# Altium schematic symbol library vDevice.SCHLIB: 150 symbols
Pins are listed as number, name and electrical type; pins without a type are passive.

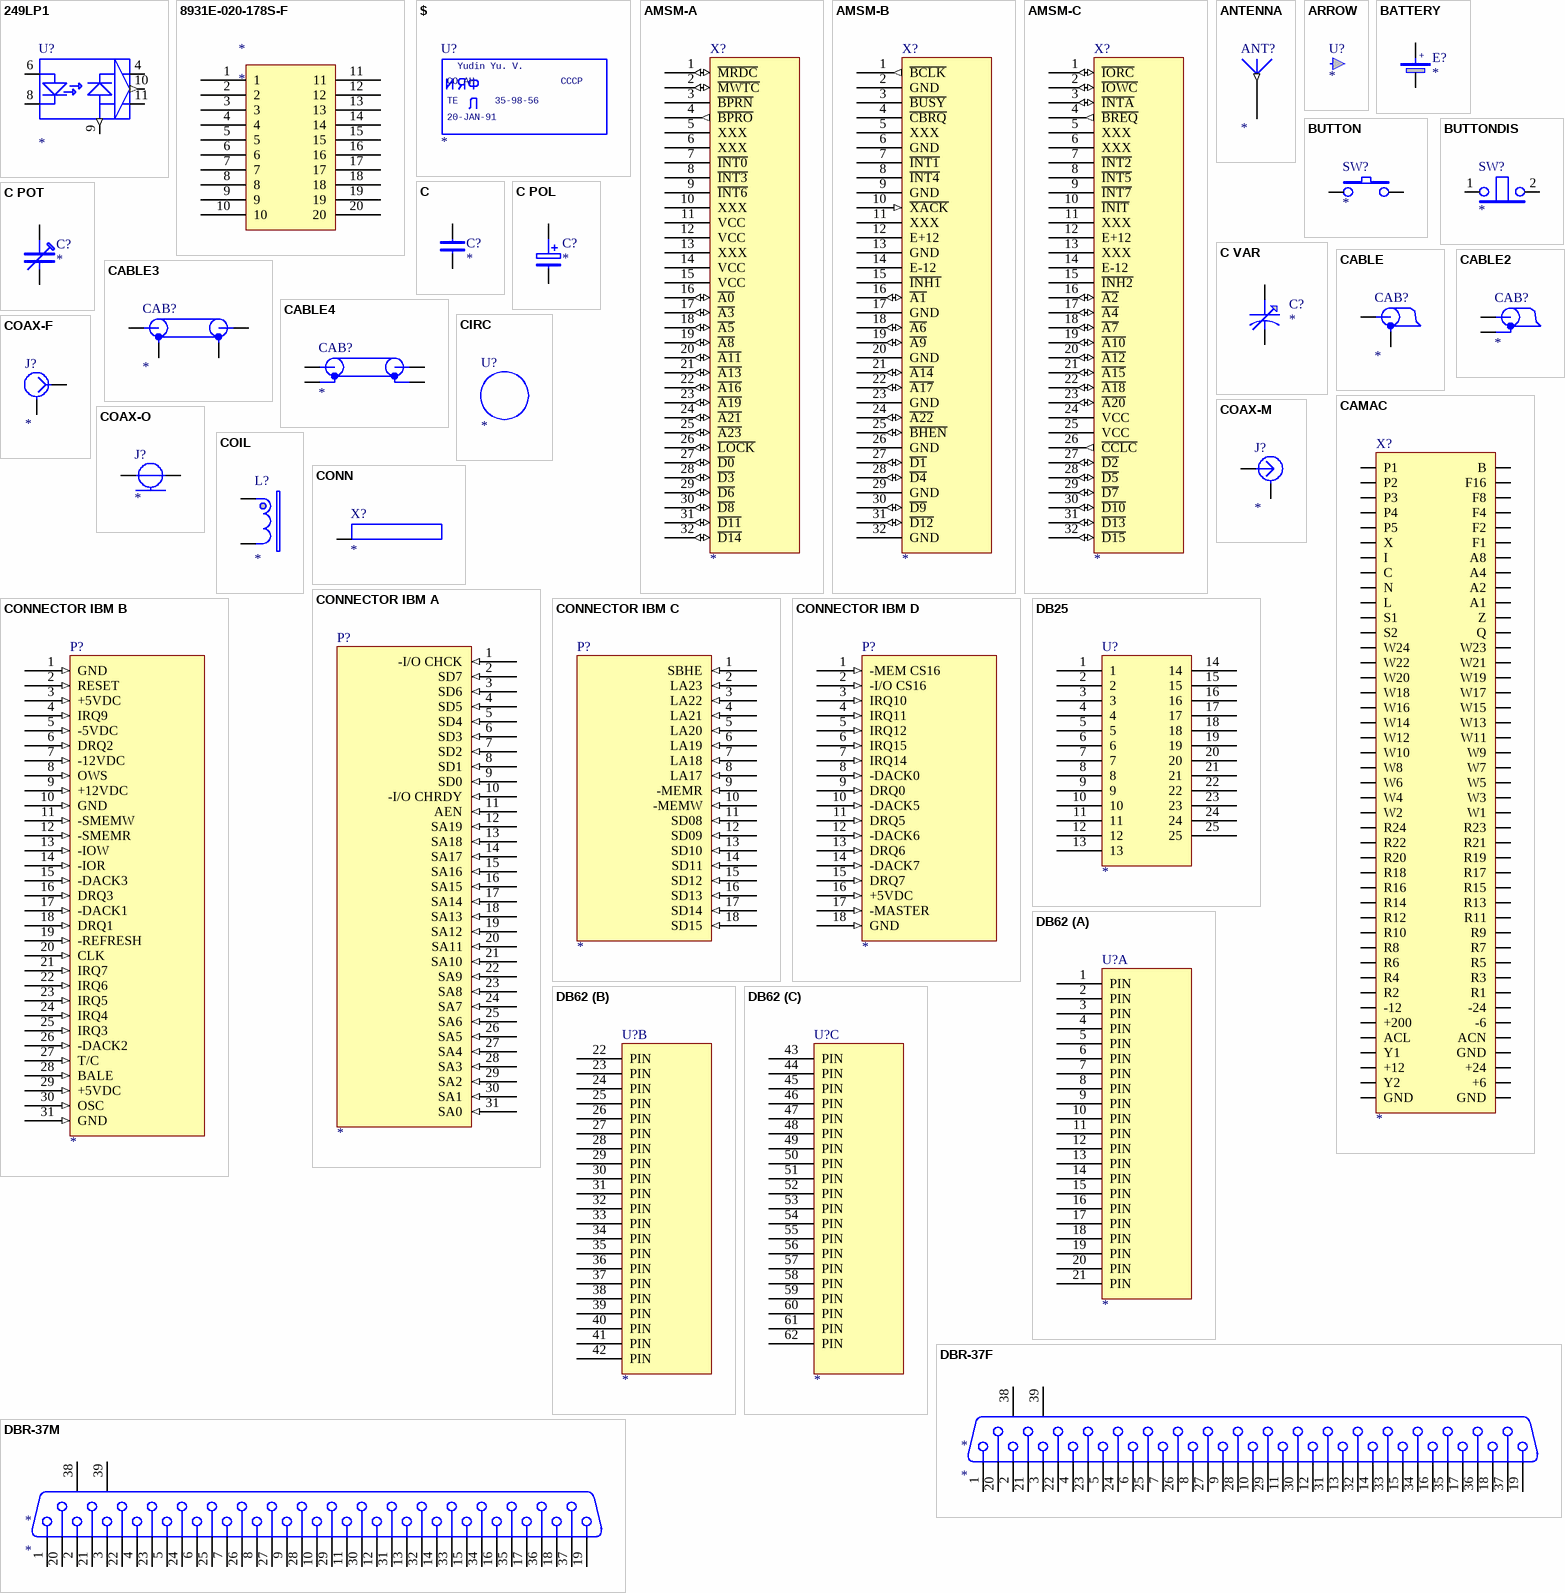
[diagram p0: symbols 249LP1 to DBR-37M]

## 249LP1
designator U?
Text Field1: 60; Text Field2: 40
pins: 4 POW, 6 ANOD, 8 CATH, 9 PHOTO (out), 10 OUT (out), 11 COMMON

## 8931E-020-178S-F
designator *
pins: 1, 2, 3, 4, 5, 6, 7, 8, 9, 10, 11, 12, 13, 14, 15, 16, 17, 18, 19, 20

## $
designator U?
Text Field1: 110; Text Field2: 50
text: Yudin Yu. V.; CO AH; CCCP; TE; 35-98-56; 20-JAN-91

## AMSM-A
designator X?
Text Field1: 60; Text Field2: 330
pins: 1 ~{MRDC} (io), 2 ~{MWTC} (io), 3 ~{BPRN}, 4 ~{BPRO} (out), 5 XXX, 6 XXX, 7 ~{INT0} (oc), 8 ~{INT3} (oc), 9 ~{INT6} (oc), 10 XXX, 11 VCC, 12 VCC, 13 XXX, 14 VCC, 15 VCC, 16 ~{A0} (io), 17 ~{A3} (io), 18 ~{A5} (io), 19 ~{A8} (io), 20 ~{A11} (io), 21 ~{A13} (io), 22 ~{A16} (io), 23 ~{A19} (io), 24 ~{A21} (io), 25 ~{A23} (io), 26 ~{LOCK} (io), 27 ~{D0} (io), 28 ~{D3} (io), 29 ~{D6} (io), 30 ~{D8} (io), 31 ~{D11} (io), 32 ~{D14} (io)

## AMSM-B
designator X?
Text Field1: 60; Text Field2: 330
pins: 1 ~{BCLK} (out), 2 GND, 3 ~{BUSY} (oc), 4 ~{CBRQ} (oc), 5 XXX, 6 GND, 7 ~{INT1} (oc), 8 ~{INT4} (oc), 9 GND, 10 ~{XACK} (in), 11 XXX, 12 E+12, 13 GND, 14 E-12, 15 ~{INH1} (oc), 16 ~{A1} (io), 17 GND, 18 ~{A6} (io), 19 ~{A9} (io), 20 GND, 21 ~{A14} (io), 22 ~{A17} (io), 23 GND, 24 ~{A22} (io), 25 ~{BHEN} (io), 26 GND, 27 ~{D1} (io), 28 ~{D4} (io), 29 GND, 30 ~{D9} (io), 31 ~{D12} (io), 32 GND

## AMSM-C
designator X?
Text Field1: 60; Text Field2: 330
pins: 1 ~{IORC} (io), 2 ~{IOWC} (io), 3 ~{INTA} (io), 4 ~{BREQ} (out), 5 XXX, 6 XXX, 7 ~{INT2} (oc), 8 ~{INT5} (oc), 9 ~{INT7} (oc), 10 ~{INIT} (oc), 11 XXX, 12 E+12, 13 XXX, 14 E-12, 15 ~{INH2} (oc), 16 ~{A2} (io), 17 ~{A4} (io), 18 ~{A7} (io), 19 ~{A10} (io), 20 ~{A12} (io), 21 ~{A15} (io), 22 ~{A18} (io), 23 ~{A20} (io), 24 VCC, 25 VCC, 26 ~{CCLC} (out), 27 ~{D2} (io), 28 ~{D5} (io), 29 ~{D7} (io), 30 ~{D10} (io), 31 ~{D13} (io), 32 ~{D15} (io)

## ANTENNA
designator ANT?
Text Field1: 20; Text Field2: 10
pins: 1 (out)

## ARROW
designator U?
Text Field1: 10; Text Field2: 20

## BATTERY
designator E?
Text Field1: 20; Text Field2: 10
pins: "+", "-"
text: +

## BUTTON
designator SW?
Text Field1: 30; Text Field2: 20
pins: 1, 2

## BUTTONDIS
designator SW?
Text Field1: 30; Text Field2: 20
pins: 1 CONN1 (io), 2 CONN2 (io)

## C
designator C?
Text Field1: 20; Text Field2: 10
footprint chip0805
footprint chip1206
footprint C2p5
footprint C5p0
footprint chip0603
pins: 1, 2

## C POL
designator C?
Text Field1: 20; Text Field2: 20
footprint CEL-SMD3330
footprint CEL-SMD300
footprint CEL15p0
footprint CEL2p5
pins: +, -

## C POT
designator C?
Text Field1: 20; Text Field2: 20
pins: 1, 2

## C VAR
designator C?
Text Field1: 20; Text Field2: 20
pins: 1, 2

## CABLE
designator CAB?
Text Field1: 30; Text Field2: 20
pins: SHIELD (io), WIRE (io)

## CABLE2
designator CAB?
Text Field1: 30; Text Field2: 20
pins: SHIELD (io), WIRE (io)

## CABLE3
designator CAB?
Text Field1: 60; Text Field2: 20
pins: SHIELD, SHIELD, WIRE, WIRE

## CABLE4
designator CAB?
Text Field1: 60; Text Field2: 20
pins: SHIELD, SHIELD, WIRE, WIRE

## CAMAC
designator X?
Text Field1: 80; Text Field2: 440
pins: +6, +12, +24, +200, -6, -12, -24, A1, A2, A4, A8, ACL, ACN, B, C, F1, F2, F4, F8, F16, GND, GND, GND, I, L, N, P1, P2, P3, P4, P5, Q, R1, R2, R3, R4, R5, R6, R7, R8, R9, R10, R11, R12, R13, R14, R15, R16, R17, R18, R19, R20, R21, R22, R23, R24, S1, S2, W1, W2, W3, W4, W5, W6, W7, W8, W9, W10, W11, W12, W13, W14, W15, W16, W17, W18, W19, W20, W21, W22, W23, W24, X, Y1, Y2, Z

## CIRC
designator U?
Text Field1: 40; Text Field2: 40

## COAX-F
designator J?
Text Field1: 20; Text Field2: 20
pins: SHIELD, WIRE

## COAX-M
designator J?
Text Field1: 20; Text Field2: 20
pins: SHIELD, WIRE

## COAX-O
designator J?
Text Field1: 20; Text Field2: 20
pins: WARE, WIRE

## COIL
designator L?
Text Field1: 20; Text Field2: 50
footprint COIL
pins: 1, 2

## CONN
designator X?
Text Field1: 60; Text Field2: 10
footprint PAD12
footprint PAD14
footprint PAD11
footprint PAD10
pins: PAD

## CONNECTOR IBM A
designator P?
Text Field1: 90; Text Field2: 320
pins: 1 -I/O CHCK (in), 2 SD7 (in), 3 SD6 (in), 4 SD5 (in), 5 SD4 (in), 6 SD3 (in), 7 SD2 (in), 8 SD1 (in), 9 SD0 (in), 10 -I/O CHRDY (in), 11 AEN (in), 12 SA19 (in), 13 SA18 (in), 14 SA17 (in), 15 SA16 (in), 16 SA15 (in), 17 SA14 (in), 18 SA13 (in), 19 SA12 (in), 20 SA11 (in), 21 SA10 (in), 22 SA9 (in), 23 SA8 (in), 24 SA7 (in), 25 SA6 (in), 26 SA5 (in), 27 SA4 (in), 28 SA3 (in), 29 SA2 (in), 30 SA1 (in), 31 SA0 (in)

## CONNECTOR IBM B
designator P?
Text Field1: 90; Text Field2: 320
pins: 1 GND (in), 2 RESET (in), 3 +5VDC (in), 4 IRQ9 (in), 5 -5VDC (in), 6 DRQ2 (in), 7 -12VDC (in), 8 OWS (in), 9 +12VDC (in), 10 GND (in), 11 -SMEMW (in), 12 -SMEMR (in), 13 -IOW (in), 14 -IOR (in), 15 -DACK3 (in), 16 DRQ3 (in), 17 -DACK1 (in), 18 DRQ1 (in), 19 -REFRESH (in), 20 CLK (in), 21 IRQ7 (in), 22 IRQ6 (in), 23 IRQ5 (in), 24 IRQ4 (in), 25 IRQ3 (in), 26 -DACK2 (in), 27 T/C (in), 28 BALE (in), 29 +5VDC (in), 30 OSC (in), 31 GND (in)

## CONNECTOR IBM C
designator P?
Text Field1: 90; Text Field2: 190
pins: 1 SBHE (in), 2 LA23 (in), 3 LA22 (in), 4 LA21 (in), 5 LA20 (in), 6 LA19 (in), 7 LA18 (in), 8 LA17 (in), 9 -MEMR (in), 10 -MEMW (in), 11 SD08 (in), 12 SD09 (in), 13 SD10 (in), 14 SD11 (in), 15 SD12 (in), 16 SD13 (in), 17 SD14 (in), 18 SD15 (in)

## CONNECTOR IBM D
designator P?
Text Field1: 90; Text Field2: 190
pins: 1 -MEM CS16 (in), 2 -I/O CS16 (in), 3 IRQ10 (in), 4 IRQ11 (in), 5 IRQ12 (in), 6 IRQ15 (in), 7 IRQ14 (in), 8 -DACK0 (in), 9 DRQ0 (in), 10 -DACK5 (in), 11 DRQ5 (in), 12 -DACK6 (in), 13 DRQ6 (in), 14 -DACK7 (in), 15 DRQ7 (in), 16 +5VDC (in), 17 -MASTER (in), 18 GND (in)

## DB25
designator U?
Text Field1: 60; Text Field2: 140
footprint DBR-F-25
footprint DBR-M-25
footprint DBS-F-25
footprint DBS-M-25
pins: 1, 2, 3, 4, 5, 6, 7, 8, 9, 10, 11, 12, 13, 14, 15, 16, 17, 18, 19, 20, 21, 22, 23, 24, 25

## DB62
designator U?
Text Field1: 60; Text Field2: 220
footprint DHBR-F-62
footprint DHBR-M-62
footprint DHBS-F-62
footprint DHBS-M-62
part A pins: 1 PIN, 2 PIN, 3 PIN, 4 PIN, 5 PIN, 6 PIN, 7 PIN, 8 PIN, 9 PIN, 10 PIN, 11 PIN, 12 PIN, 13 PIN, 14 PIN, 15 PIN, 16 PIN, 17 PIN, 18 PIN, 19 PIN, 20 PIN, 21 PIN
part B pins: 22 PIN, 23 PIN, 24 PIN, 25 PIN, 26 PIN, 27 PIN, 28 PIN, 29 PIN, 30 PIN, 31 PIN, 32 PIN, 33 PIN, 34 PIN, 35 PIN, 36 PIN, 37 PIN, 38 PIN, 39 PIN, 40 PIN, 41 PIN, 42 PIN
part C pins: 43 PIN, 44 PIN, 45 PIN, 46 PIN, 47 PIN, 48 PIN, 49 PIN, 50 PIN, 51 PIN, 52 PIN, 53 PIN, 54 PIN, 55 PIN, 56 PIN, 57 PIN, 58 PIN, 59 PIN, 60 PIN, 61 PIN, 62 PIN

## DBR-37F
designator *
footprint DBR-F-37
pins: 1, 2, 3, 4, 5, 6, 7, 8, 9, 10, 11, 12, 13, 14, 15, 16, 17, 18, 19, 20, 21, 22, 23, 24, 25, 26, 27, 28, 29, 30, 31, 32, 33, 34, 35, 36, 37, 38, 39

## DBR-37M
designator *
footprint DBR-37-M
pins: 1, 2, 3, 4, 5, 6, 7, 8, 9, 10, 11, 12, 13, 14, 15, 16, 17, 18, 19, 20, 21, 22, 23, 24, 25, 26, 27, 28, 29, 30, 31, 32, 33, 34, 35, 36, 37, 38, 39

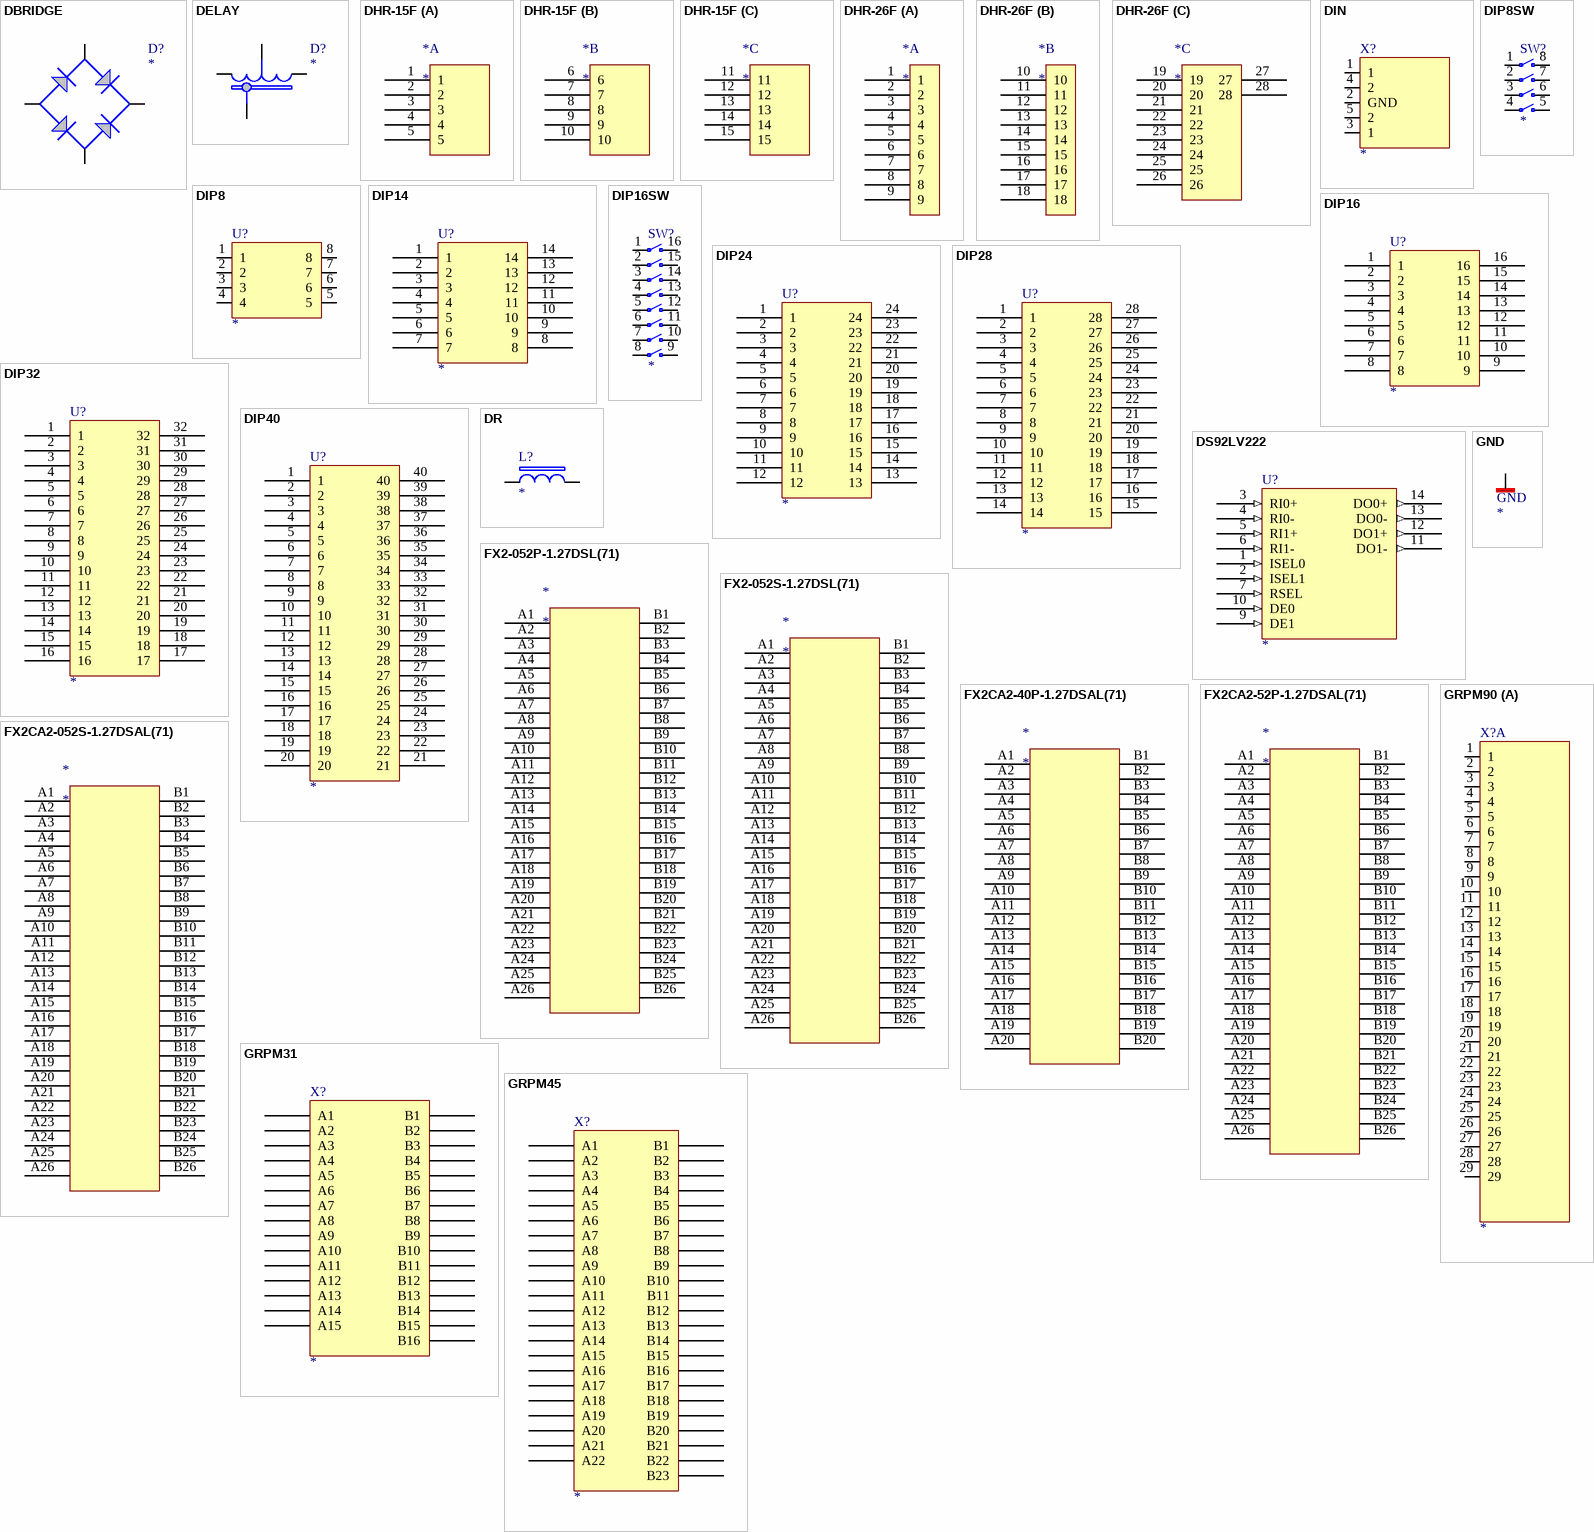
[diagram p1: symbols DBRIDGE to GRPM90]

## DBRIDGE
designator D?
Text Field1: 60; Text Field2: 60
pins: AC IN 1, AC IN 2, DC OUT MINUS, DC OUT PLUS

## DELAY
designator D?
Text Field1: 40; Text Field2: 30
pins: GND (io), OUT1 (io), OUT2 (io), OUT3 (io)

## DHR-15F
designator *
footprint DHR-F-15
part A pins: 1, 2, 3, 4, 5
part B pins: 6, 7, 8, 9, 10
part C pins: 11, 12, 13, 14, 15

## DHR-26F
designator *
footprint DHR-F-26
footprint DHR-26F
part A pins: 1, 2, 3, 4, 5, 6, 7, 8, 9
part B pins: 10, 11, 12, 13, 14, 15, 16, 17, 18
part C pins: 19, 20, 21, 22, 23, 24, 25, 26, 27, 28

## DIN
designator X?
Text Field1: 60; Text Field2: 60
footprint DIN
pins: 1, 2 GND, 3 1, 4 2, 5 2

## DIP8
designator U?
Text Field1: 60; Text Field2: 50
footprint 8DIP300
footprint 8SO200
pins: 1, 2, 3, 4, 5, 6, 7, 8

## DIP8SW
designator SW?
Text Field1: 10; Text Field2: 50
footprint 8DIP300
pins: 1, 2, 3, 4, 5, 6, 7, 8

## DIP14
designator U?
Text Field1: 60; Text Field2: 80
footprint 14DIP300
footprint 14SO200
pins: 1, 2, 3, 4, 5, 6, 7, 8, 9, 10, 11, 12, 13, 14

## DIP16
designator U?
Text Field1: 60; Text Field2: 90
footprint 16DIP300
footprint 16SO200
pins: 1, 2, 3, 4, 5, 6, 7, 8, 9, 10, 11, 12, 13, 14, 15, 16

## DIP16SW
designator SW?
Text Field1: 10; Text Field2: 90
pins: 1, 2, 3, 4, 5, 6, 7, 8, 9, 10, 11, 12, 13, 14, 15, 16

## DIP24
designator U?
Text Field1: 60; Text Field2: 130
pins: 1, 2, 3, 4, 5, 6, 7, 8, 9, 10, 11, 12, 13, 14, 15, 16, 17, 18, 19, 20, 21, 22, 23, 24

## DIP28
designator U?
Text Field1: 60; Text Field2: 150
pins: 1, 2, 3, 4, 5, 6, 7, 8, 9, 10, 11, 12, 13, 14, 15, 16, 17, 18, 19, 20, 21, 22, 23, 24, 25, 26, 27, 28

## DIP32
designator U?
Text Field1: 60; Text Field2: 170
pins: 1, 2, 3, 4, 5, 6, 7, 8, 9, 10, 11, 12, 13, 14, 15, 16, 17, 18, 19, 20, 21, 22, 23, 24, 25, 26, 27, 28, 29, 30, 31, 32

## DIP40
designator U?
Text Field1: 60; Text Field2: 210
pins: 1, 2, 3, 4, 5, 6, 7, 8, 9, 10, 11, 12, 13, 14, 15, 16, 17, 18, 19, 20, 21, 22, 23, 24, 25, 26, 27, 28, 29, 30, 31, 32, 33, 34, 35, 36, 37, 38, 39, 40

## DR
designator L?
Text Field1: 30; Text Field2: 10
footprint DR20p0
footprint DR30p0
pins: 1, 2

## DS92LV222
designator U?
Text Field1: 90; Text Field2: 100
pins: 1 ISEL0 (in), 2 ISEL1 (in), 3 RI0+ (in), 4 RI0- (in), 5 RI1+ (in), 6 RI1- (in), 7 RSEL (in), 8 GND (power) hidden to GND, 9 DE1 (in), 10 DE0 (in), 11 DO1- (out), 12 DO1+ (out), 13 DO0- (out), 14 DO0+ (out), 16 VCC (power) hidden to VCC

## FX2-052P-1.27DSL(71)
designator *
pins: A1 1, A2 2, A3 3, A4 4, A5 5, A6 6, A7 7, A8 8, A9 9, A10 10, A11 11, A12 12, A13 13, A14 14, A15 15, A16 16, A17 17, A18 18, A19 19, A20 20, A21, A22, A23, A24, A25, A26, B1 1, B2 2, B3 3, B4 4, B5 5, B6 6, B7 7, B8 8, B9 9, B10 10, B11 11, B12 12, B13 13, B14 14, B15 15, B16 16, B17 17, B18 18, B19 19, B20 20, B21, B22, B23, B24, B25, B26

## FX2-052S-1.27DSL(71)
designator *
pins: A1 1, A2 2, A3 3, A4 4, A5 5, A6 6, A7 7, A8 8, A9 9, A10 10, A11 11, A12 12, A13 13, A14 14, A15 15, A16 16, A17 17, A18 18, A19 19, A20 20, A21, A22, A23, A24, A25, A26, B1 1, B2 2, B3 3, B4 4, B5 5, B6 6, B7 7, B8 8, B9 9, B10 10, B11 11, B12 12, B13 13, B14 14, B15 15, B16 16, B17 17, B18 18, B19 19, B20 20, B21, B22, B23, B24, B25, B26

## FX2CA2-40P-1.27DSAL(71)
designator *
pins: A1 1, A2 2, A3 3, A4 4, A5 5, A6 6, A7 7, A8 8, A9 9, A10 10, A11 11, A12 12, A13 13, A14 14, A15 15, A16 16, A17 17, A18 18, A19 19, A20 20, B1 1, B2 2, B3 3, B4 4, B5 5, B6 6, B7 7, B8 8, B9 9, B10 10, B11 11, B12 12, B13 13, B14 14, B15 15, B16 16, B17 17, B18 18, B19 19, B20 20

## FX2CA2-52P-1.27DSAL(71)
designator *
pins: A1 1, A2 2, A3 3, A4 4, A5 5, A6 6, A7 7, A8 8, A9 9, A10 10, A11 11, A12 12, A13 13, A14 14, A15 15, A16 16, A17 17, A18 18, A19 19, A20 20, A21, A22, A23, A24, A25, A26, B1 1, B2 2, B3 3, B4 4, B5 5, B6 6, B7 7, B8 8, B9 9, B10 10, B11 11, B12 12, B13 13, B14 14, B15 15, B16 16, B17 17, B18 18, B19 19, B20 20, B21, B22, B23, B24, B25, B26

## FX2CA2-052S-1.27DSAL(71)
designator *
pins: A1 1, A2 2, A3 3, A4 4, A5 5, A6 6, A7 7, A8 8, A9 9, A10 10, A11 11, A12 12, A13 13, A14 14, A15 15, A16 16, A17 17, A18 18, A19 19, A20 20, A21, A22, A23, A24, A25, A26, B1 1, B2 2, B3 3, B4 4, B5 5, B6 6, B7 7, B8 8, B9 9, B10 10, B11 11, B12 12, B13 13, B14 14, B15 15, B16 16, B17 17, B18 18, B19 19, B20 20, B21, B22, B23, B24, B25, B26

## GND
designator GND
pins: 1 GND (power)

## GRPM31
designator X?
Text Field1: 80; Text Field2: 170
pins: A1, A2, A3, A4, A5, A6, A7, A8, A9, A10, A11, A12, A13, A14, A15, B1, B2, B3, B4, B5, B6, B7, B8, B9, B10, B11, B12, B13, B14, B15, B16

## GRPM45
designator X?
Text Field1: 70; Text Field2: 240
pins: A1, A2, A3, A4, A5, A6, A7, A8, A9, A10, A11, A12, A13, A14, A15, A16, A17, A18, A19, A20, A21, A22, B1, B2, B3, B4, B5, B6, B7, B8, B9, B10, B11, B12, B13, B14, B15, B16, B17, B18, B19, B20, B21, B22, B23

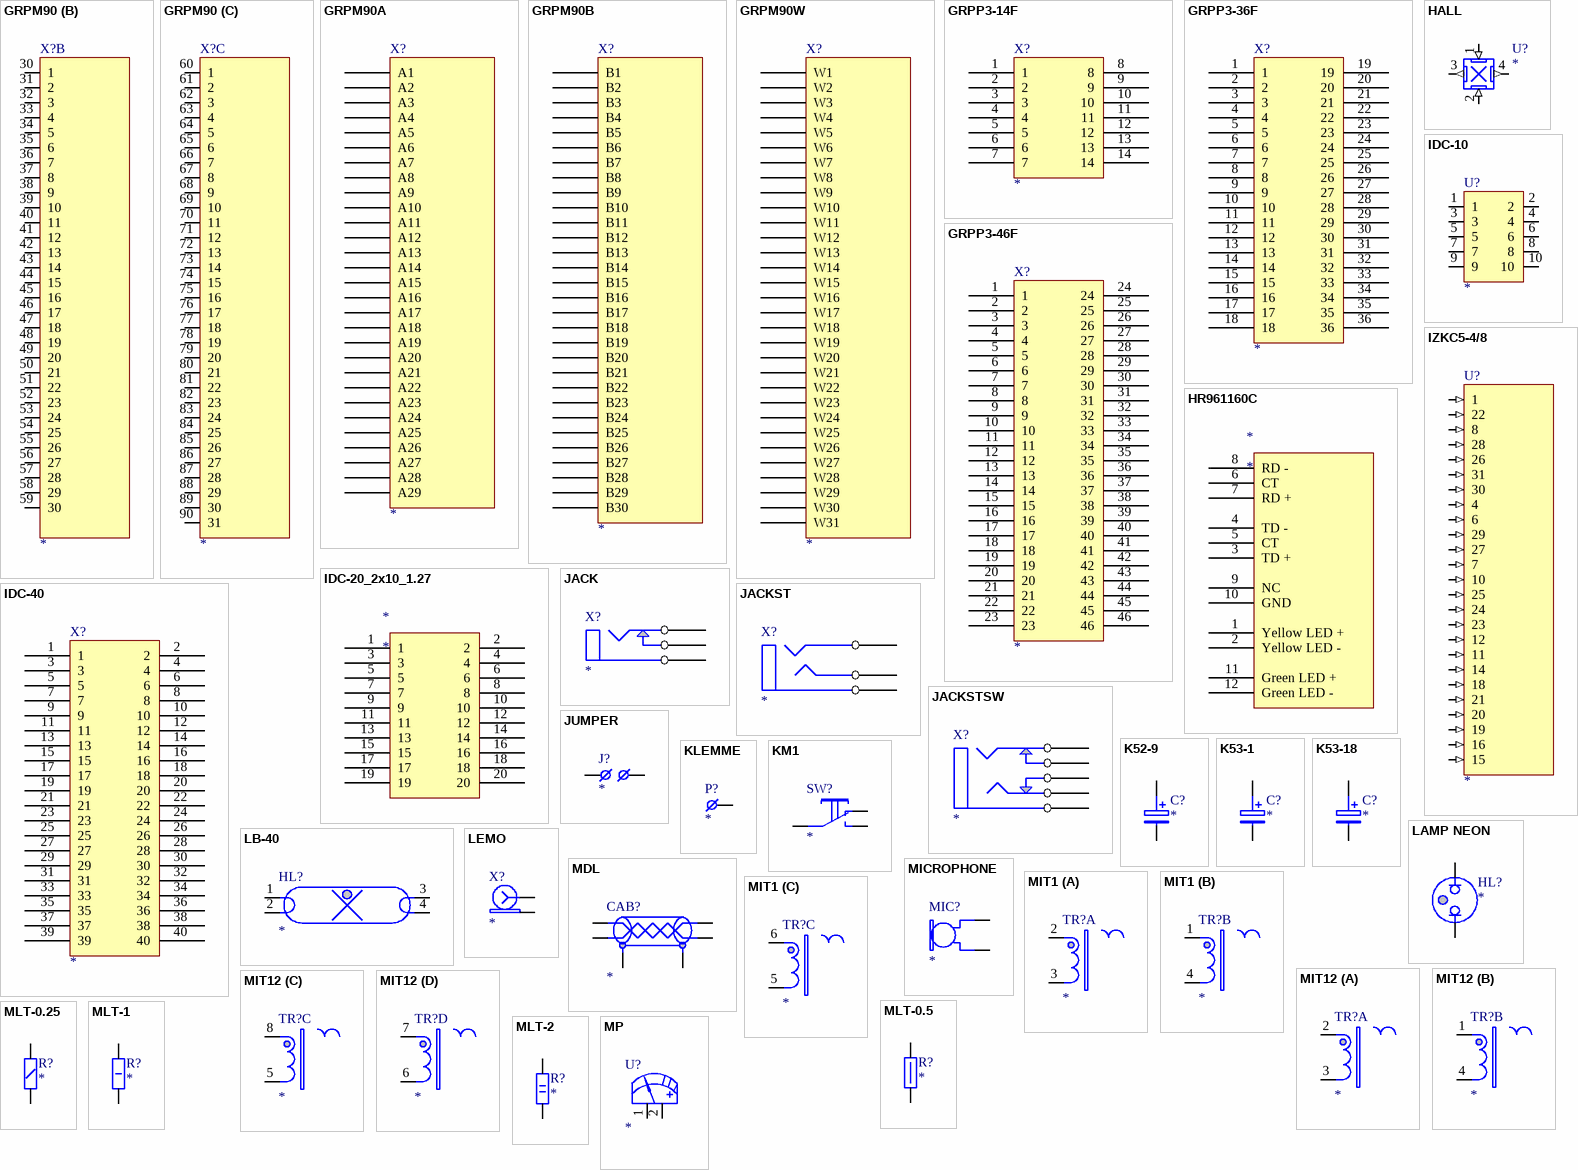
[diagram p2: symbols GRPM90 to MP]

## GRPM90
designator X?
Text Field1: 60; Text Field2: 320
part A pins: 1, 2, 3, 4, 5, 6, 7, 8, 9, 10, 11, 12, 13, 14, 15, 16, 17, 18, 19, 20, 21, 22, 23, 24, 25, 26, 27, 28, 29
part B pins: 30 1, 31 2, 32 3, 33 4, 34 5, 35 6, 36 7, 37 8, 38 9, 39 10, 40 11, 41 12, 42 13, 43 14, 44 15, 45 16, 46 17, 47 18, 48 19, 49 20, 50 21, 51 22, 52 23, 53 24, 54 25, 55 26, 56 27, 57 28, 58 29, 59 30
part C pins: 60 1, 61 2, 62 3, 63 4, 64 5, 65 6, 66 7, 67 8, 68 9, 69 10, 70 11, 71 12, 72 13, 73 14, 74 15, 75 16, 76 17, 77 18, 78 19, 79 20, 80 21, 81 22, 82 23, 83 24, 84 25, 85 26, 86 27, 87 28, 88 29, 89 30, 90 31

## GRPM90A
designator X?
Text Field1: 70; Text Field2: 300
pins: A1, A2, A3, A4, A5, A6, A7, A8, A9, A10, A11, A12, A13, A14, A15, A16, A17, A18, A19, A20, A21, A22, A23, A24, A25, A26, A27, A28, A29

## GRPM90B
designator X?
Text Field1: 70; Text Field2: 310
pins: B1, B2, B3, B4, B5, B6, B7, B8, B9, B10, B11, B12, B13, B14, B15, B16, B17, B18, B19, B20, B21, B22, B23, B24, B25, B26, B27, B28, B29, B30

## GRPM90W
designator X?
Text Field1: 70; Text Field2: 320
pins: W1, W2, W3, W4, W5, W6, W7, W8, W9, W10, W11, W12, W13, W14, W15, W16, W17, W18, W19, W20, W21, W22, W23, W24, W25, W26, W27, W28, W29, W30, W31

## GRPP3-14F
designator X?
Text Field1: 60; Text Field2: 80
pins: 1, 2, 3, 4, 5, 6, 7, 8, 9, 10, 11, 12, 13, 14

## GRPP3-36F
designator X?
Text Field1: 60; Text Field2: 190
pins: 1, 2, 3, 4, 5, 6, 7, 8, 9, 10, 11, 12, 13, 14, 15, 16, 17, 18, 19, 20, 21, 22, 23, 24, 25, 26, 27, 28, 29, 30, 31, 32, 33, 34, 35, 36

## GRPP3-46F
designator X?
Text Field1: 60; Text Field2: 240
pins: 1, 2, 3, 4, 5, 6, 7, 8, 9, 10, 11, 12, 13, 14, 15, 16, 17, 18, 19, 20, 21, 22, 23, 24, 25, 26, 27, 28, 29, 30, 31, 32, 33, 34, 35, 36, 37, 38, 39, 40, 41, 42, 43, 44, 45, 46

## HALL
designator U?
Text Field1: 20; Text Field2: 20
pins: 1 IN+ (in), 2 IN- (in), 3 OUT+ (out), 4 OUT- (out)

## HR961160C
designator *
footprint HR961160C
pins: 1 Yellow LED +, 2 Yellow LED -, 3 TD +, 4 TD -, 5 CT, 6 CT, 7 RD +, 8 RD -, 9 NC, 10 GND (power), 11 Green LED +, 12 Green LED -

## IDC-10
designator U?
Text Field1: 40; Text Field2: 60
footprint IDC10
pins: 1 (io), 2 (io), 3 (io), 4 (io), 5 (io), 6 (io), 7 (io), 8 (io), 9 (io), 10 (io)

## IDC-20_2x10_1.27
designator *
footprint IDC-20_2x10_1.27
pins: 1, 2, 3, 4, 5, 6, 7, 8, 9, 10, 11, 12, 13, 14, 15, 16, 17, 18, 19, 20

## IDC-40
designator X?
Text Field1: 60; Text Field2: 210
footprint IDC40
pins: 1, 2, 3, 4, 5, 6, 7, 8, 9, 10, 11, 12, 13, 14, 15, 16, 17, 18, 19, 20, 21, 22, 23, 24, 25, 26, 27, 28, 29, 30, 31, 32, 33, 34, 35, 36, 37, 38, 39, 40

## IZKC5-4/8
designator U?
Text Field1: 60; Text Field2: 260
pins: 1 (in), 4 (in), 6 (in), 7 (in), 8 (in), 10 (in), 11 (in), 12 (in), 14 (in), 15 (in), 16 (in), 18 (in), 19 (in), 20 (in), 21 (in), 22 (in), 23 (in), 24 (in), 25 (in), 26 (in), 27 (in), 28 (in), 29 (in), 30 (in), 31 (in)

## JACK
designator X?
Text Field1: 50; Text Field2: 40
pins: 1, 2, 3

## JACKST
designator X?
Text Field1: 60; Text Field2: 50
pins: A, B, C

## JACKSTSW
designator X?
Text Field1: 60; Text Field2: 60
pins: A, B, C, D, E

## JUMPER
designator J?
Text Field1: 20; Text Field2: 20
footprint J2p5
pins: 1 (io), 2 (io)

## K52-9
designator C?
Text Field1: 20; Text Field2: 20
pins: +, -

## K53-1
designator C?
Text Field1: 20; Text Field2: 20
pins: +, -

## K53-18
designator C?
Text Field1: 20; Text Field2: 20
pins: +, -

## KLEMME
designator P?
Text Field1: 10; Text Field2: 20
footprint Pad12
footprint Pad10
footprint Pad11
footprint PAD14
pins: PAD

## KM1
designator SW?
Text Field1: 30; Text Field2: 30
pins: KLEMME1 (io), KLEMME2 (io), KLEMME3 (io)

## LAMP NEON
designator HL?
Text Field1: 40; Text Field2: 30
pins: 1, 2

## LB-40
designator HL?
Text Field1: 90; Text Field2: 30
pins: 1 (io), 2 (io), 3 (io), 4 (io)

## LEMO
designator X?
Text Field1: 20; Text Field2: 20
pins: SHIELD (io), WIRE (io)

## MDL
designator CAB?
Text Field1: 60; Text Field2: 30
pins: SHIELD (io), SHIELD (io), WIRE+ (io), WIRE+ (io), WIRE- (io), WIRE- (io)

## MICROPHONE
designator MIC?
Text Field1: 30; Text Field2: 20
pins: 1, 2

## MIT1
designator TR?
Text Field1: 20; Text Field2: 50
part A pins: 2 1, 3 2
part B pins: 1, 4 2
part C pins: 5 2, 6 1

## MIT12
designator TR?
Text Field1: 20; Text Field2: 50
part A pins: 2 1, 3 2
part B pins: 1, 4 2
part C pins: 5 2, 8 1
part D pins: 6 2, 7 1

## MLT-0.5
designator R?
Text Field1: 20; Text Field2: 20
pins: 1, 2

## MLT-0.25
designator R?
Text Field1: 20; Text Field2: 20
pins: 1, 2

## MLT-1
designator R?
Text Field1: 20; Text Field2: 20
pins: 1, 2

## MLT-2
designator R?
Text Field1: 20; Text Field2: 20
pins: 1, 2

## MP
designator U?
Text Field1: 30; Text Field2: 20
pins: 1, 2

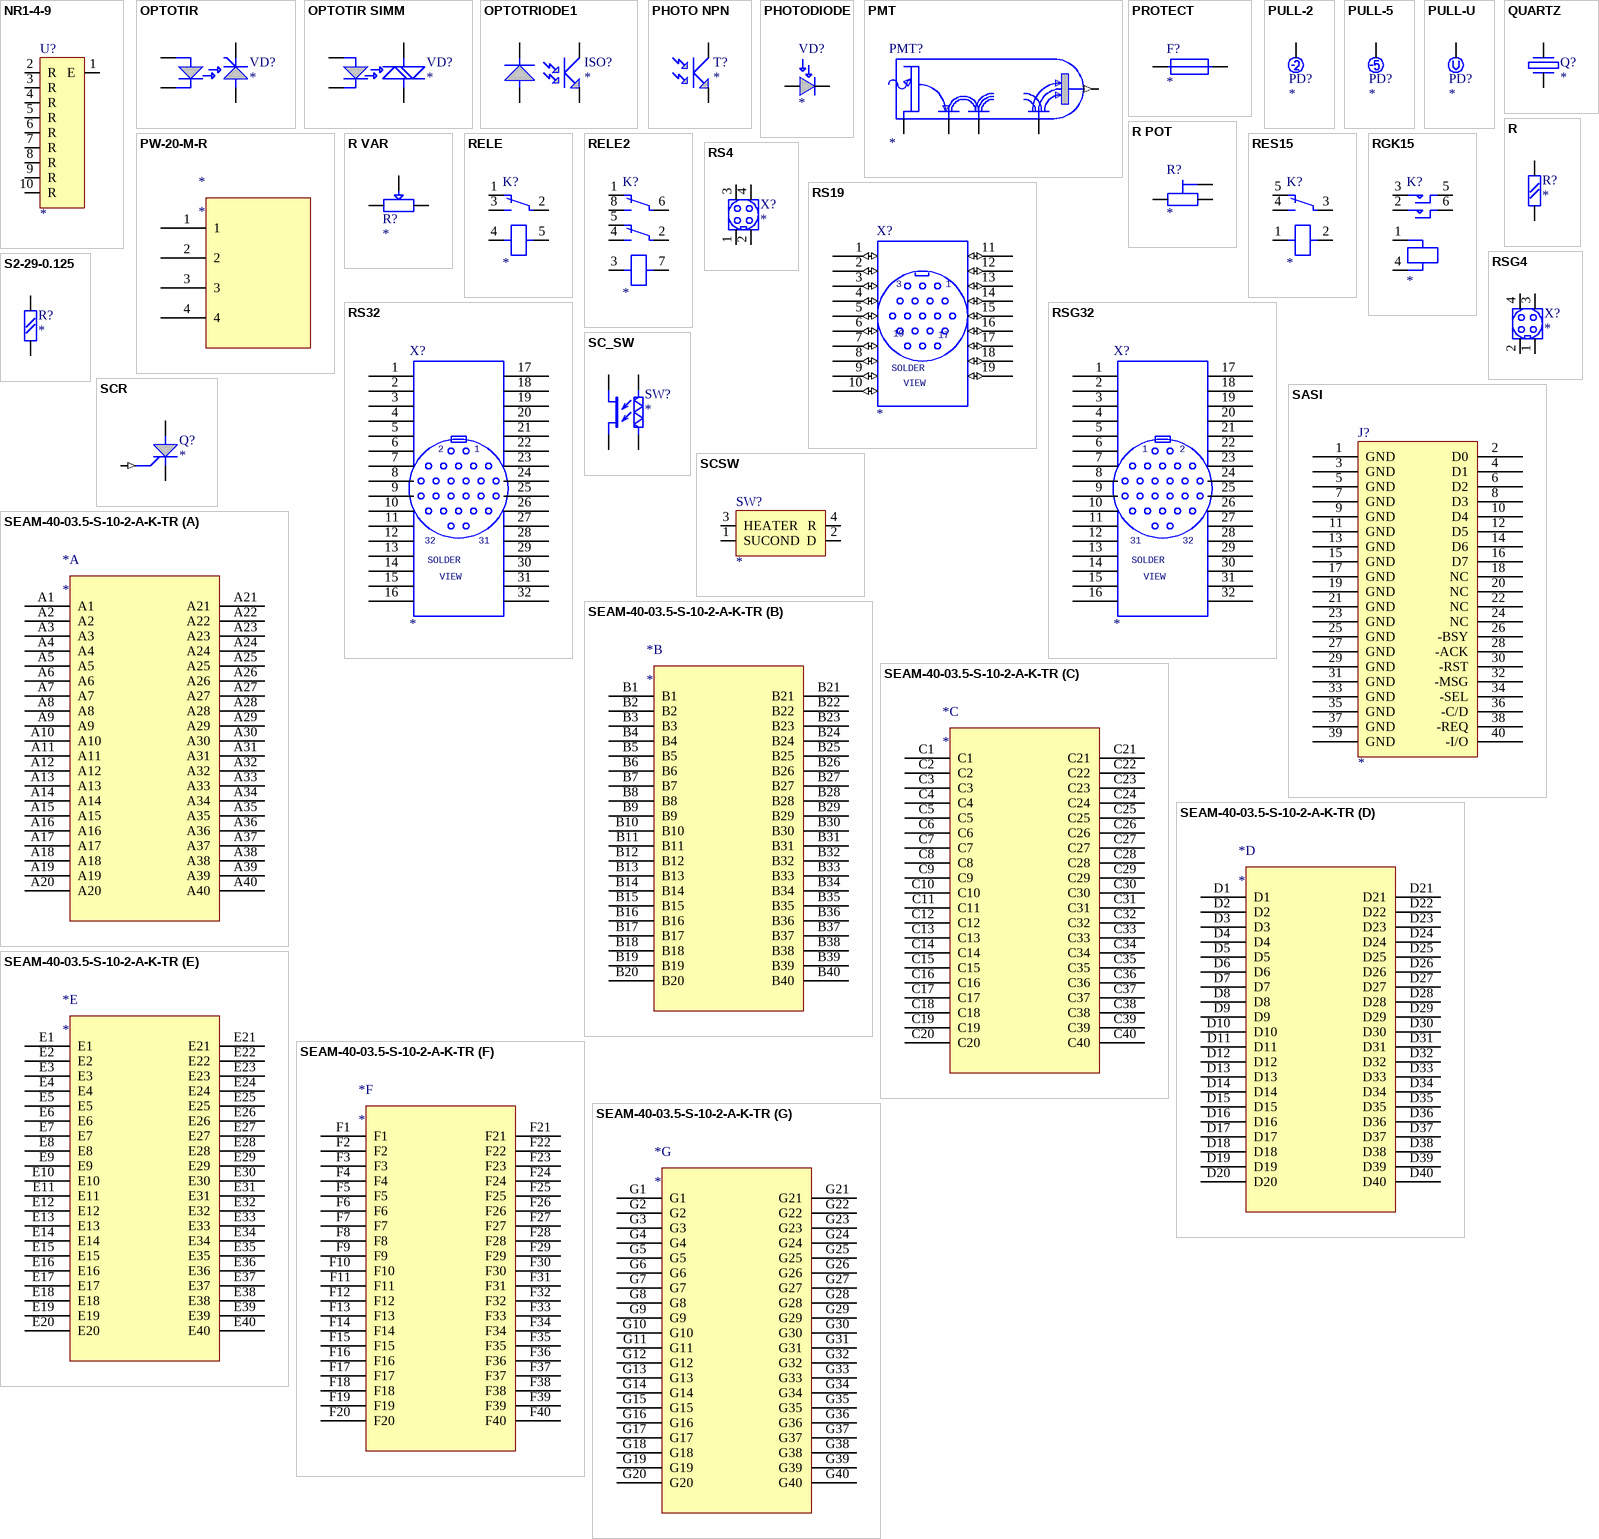
[diagram p3: symbols NR1-4-9 to SEAM-40-03.5-S-10-2-A-K-TR]

## NR1-4-9
designator U?
Text Field1: 30; Text Field2: 100
footprint 10SIP100
pins: 1 E, 2 R, 3 R, 4 R, 5 R, 6 R, 7 R, 8 R, 9 R, 10 R

## OPTOTIR
designator VD?
Text Field1: 50; Text Field2: 20
pins: ANO1, ANOD, CAT1, CATH

## OPTOTIR SIMM
designator VD?
Text Field1: 60; Text Field2: 20
pins: ANO1, ANO2, ANOD, CATH

## OPTOTRIODE1
designator ISO?
Text Field1: 50; Text Field2: 20
pins: ANOD, CATH, COLL, EMIT

## PHOTO NPN
designator T?
Text Field1: 30; Text Field2: 20
pins: COLL, EMIT

## PHOTODIODE
designator VD?
Text Field1: 10; Text Field2: 30
pins: ANOD, CATH

## PMT
designator PMT?
Text Field1: 130; Text Field2: 40
pins: ANODE (out), CATH (io), DN1 (io), DND2 (io), DNDN (io)

## PROTECT
designator F?
Text Field1: 30; Text Field2: 20
pins: 1, 2

## PULL-2
designator PD?
Text Field1: 20; Text Field2: 10
pins: -2V (power) hidden to -2V, PULL

## PULL-5
designator PD?
Text Field1: 20; Text Field2: 10
pins: -5V (power) hidden to -5V, PULL

## PULL-U
designator PD?
Text Field1: 20; Text Field2: 10
pins: PULL (io), U_PD (power) hidden to U_PD

## PW-20-M-R
designator *
pins: 1, 2, 3, 4

## QUARTZ
designator Q?
Text Field1: 20; Text Field2: 10
pins: 1, 2

## R
designator R?
Text Field1: 20; Text Field2: 20
footprint chip0805
footprint chip1206
footprint r7p5
footprint r8p75
footprint chip0603
footprint chip0402
pins: 1, 2

## R POT
designator R?
Text Field1: 20; Text Field2: 30
footprint RVAR1
footprint RVAR2
footprint RVAR3
footprint RVAR4
pins: 1, 2, 3

## R VAR
designator R?
Text Field1: 20; Text Field2: 20
footprint RVAR1
footprint RVAR2
pins: 1, 2, 3

## RELE
designator K?
Text Field1: 20; Text Field2: 40
pins: 1 ON, 2 SW, 3 OFF, 4 M1, 5 M2

## RELE2
designator K?
Text Field1: 20; Text Field2: 60
footprint REK49
pins: 1 2ON, 2 1SW, 3 M1, 4 1OFF, 5 1ON, 6 2SW, 7 M2, 8 2OFF

## RES15
designator K?
Text Field1: 20; Text Field2: 40
footprint RES15
pins: 1 M1, 2 M2, 3 SW, 4 OFF, 5 ON

## RGK15
designator K?
Text Field1: 20; Text Field2: 50
footprint RGK15
pins: 1 3, 2, 3 1, 4, 5, 6 4

## RS4
designator X?
Text Field1: 30; Text Field2: 20
pins: 1 PIN4 (io), 2 PIN3 (io), 3 PIN1 (io), 4 PIN2 (io)

## RS19
designator X?
Text Field1: 60; Text Field2: 110
pins: 1 (io), 2 (io), 3 (io), 4 (io), 5 (io), 6 (io), 7 (io), 8 (io), 9 (io), 10 (io), 11 (io), 12 (io), 13 (io), 14 (io), 15 (io), 16 (io), 17 (io), 18 (io), 19 (io)
text: SOLDER; VIEW

## RS32
designator X?
Text Field1: 60; Text Field2: 170
pins: 1, 2, 3, 4, 5, 6, 7, 8, 9, 10, 11, 12, 13, 14, 15, 16, 17, 18, 19, 20, 21, 22, 23, 24, 25, 26, 27, 28, 29, 30, 31, 32
text: SOLDER; VIEW

## RSG4
designator X?
Text Field1: 30; Text Field2: 20
pins: 1 PIN3 (io), 2 PIN4 (io), 3 PIN2 (io), 4 PIN1 (io)

## RSG32
designator X?
Text Field1: 60; Text Field2: 170
pins: 1, 2, 3, 4, 5, 6, 7, 8, 9, 10, 11, 12, 13, 14, 15, 16, 17, 18, 19, 20, 21, 22, 23, 24, 25, 26, 27, 28, 29, 30, 31, 32
text: SOLDER; VIEW

## S2-29-0.125
designator R?
Text Field1: 20; Text Field2: 20
pins: 1, 2

## SASI
designator J?
Text Field1: 80; Text Field2: 210
pins: 1 GND, 2 D0, 3 GND, 4 D1, 5 GND, 6 D2, 7 GND, 8 D3, 9 GND, 10 D4, 11 GND, 12 D5, 13 GND, 14 D6, 15 GND, 16 D7, 17 GND, 18 NC, 19 GND, 20 NC, 21 GND, 22 NC, 23 GND, 24 NC, 25 GND, 26 -BSY, 27 GND, 28 -ACK, 29 GND, 30 -RST, 31 GND, 32 -MSG, 33 GND, 34 -SEL, 35 GND, 36 -C/D, 37 GND, 38 -REQ, 39 GND, 40 -I/O

## SC_SW
designator SW?
Text Field1: 40; Text Field2: 30
pins: HEAT1 (io), HEAT2 (io), SW1 (io), SW2 (io)

## SCR
designator Q?
Text Field1: 30; Text Field2: 20
pins: ANOD, CATH, GATE (in)

## SCSW
designator SW?
Text Field1: 60; Text Field2: 30
pins: 1 SUCOND, 2 D, 3 HEATER, 4 R

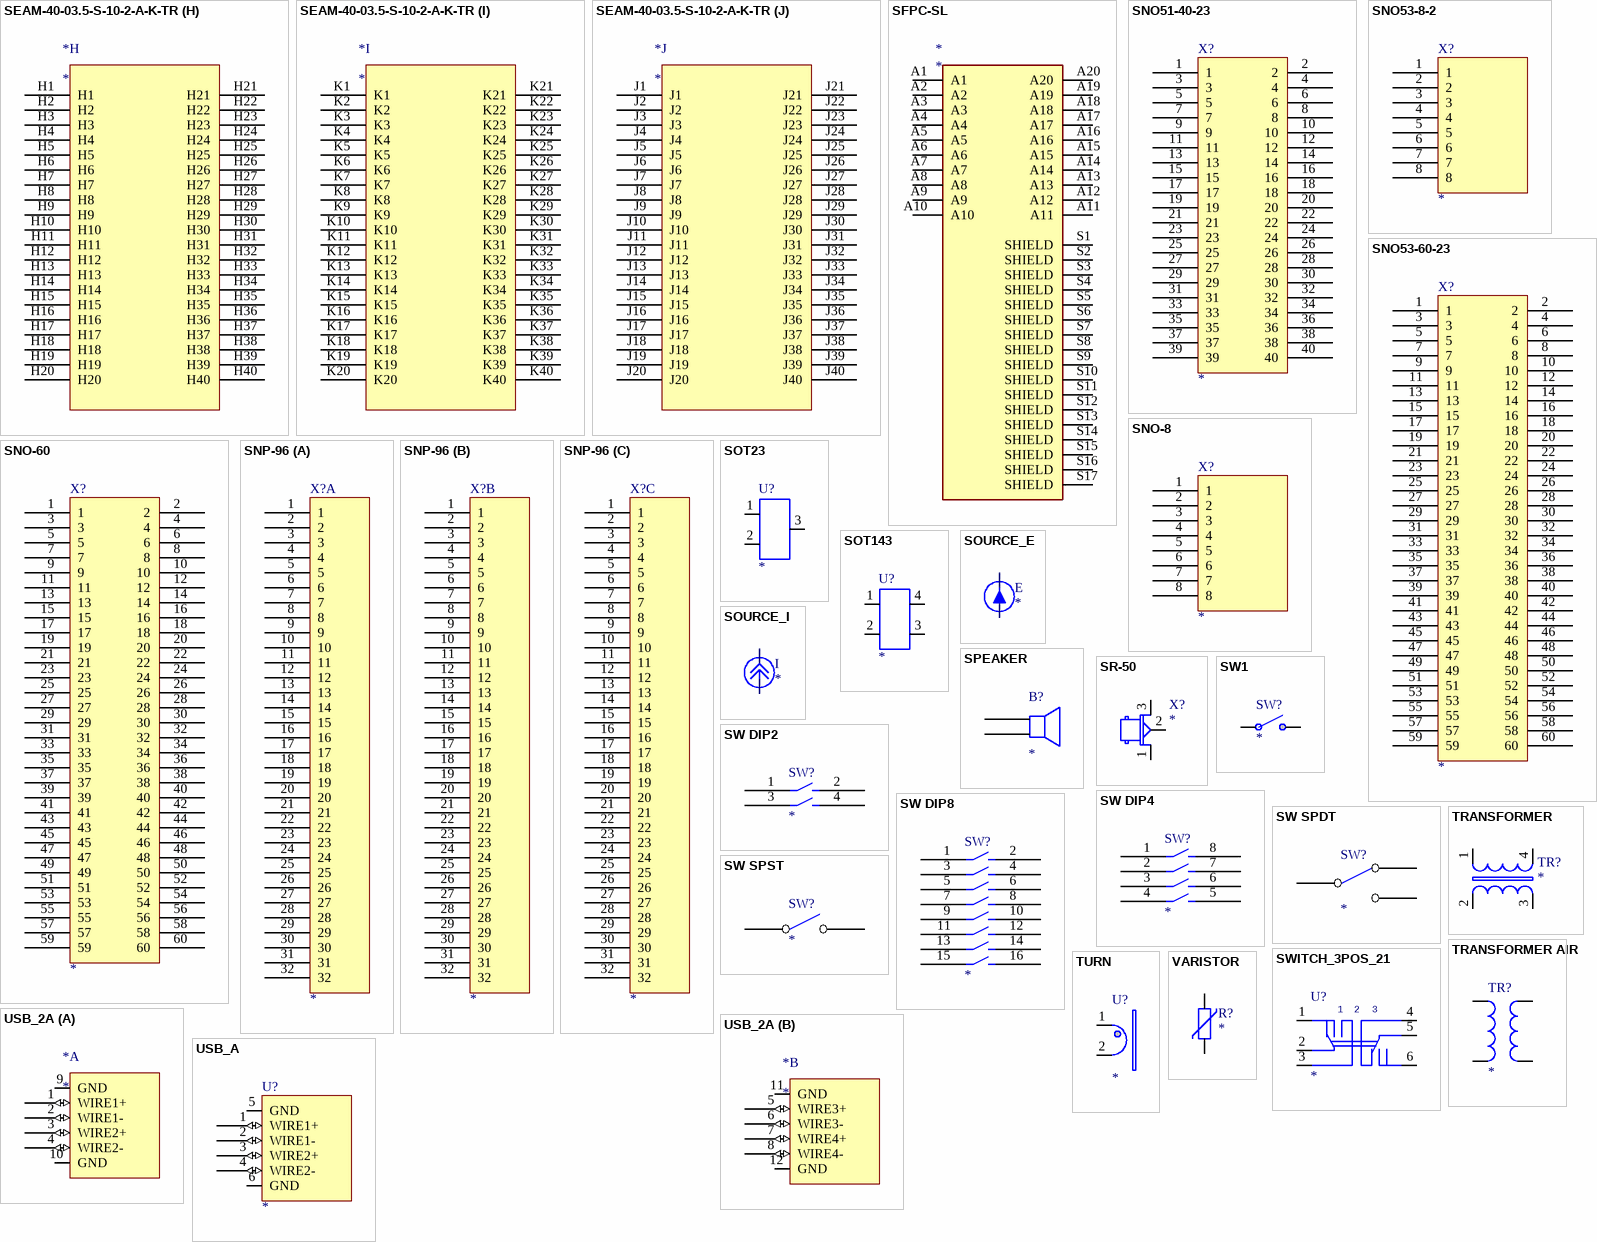
[diagram p4: symbols SEAM-40-03.5-S-10-2-A-K-TR to VARISTOR]

## SEAM-40-03.5-S-10-2-A-K-TR
designator *
footprint SEAM-40-03.5-S-10-2-A-K-TR
part A pins: A1, A2, A3, A4, A5, A6, A7, A8, A9, A10, A11, A12, A13, A14, A15, A16, A17, A18, A19, A20, A21, A22, A23, A24, A25, A26, A27, A28, A29, A30, A31, A32, A33, A34, A35, A36, A37, A38, A39, A40
part B pins: B1, B2, B3, B4, B5, B6, B7, B8, B9, B10, B11, B12, B13, B14, B15, B16, B17, B18, B19, B20, B21, B22, B23, B24, B25, B26, B27, B28, B29, B30, B31, B32, B33, B34, B35, B36, B37, B38, B39, B40
part C pins: C1, C2, C3, C4, C5, C6, C7, C8, C9, C10, C11, C12, C13, C14, C15, C16, C17, C18, C19, C20, C21, C22, C23, C24, C25, C26, C27, C28, C29, C30, C31, C32, C33, C34, C35, C36, C37, C38, C39, C40
part D pins: D1, D2, D3, D4, D5, D6, D7, D8, D9, D10, D11, D12, D13, D14, D15, D16, D17, D18, D19, D20, D21, D22, D23, D24, D25, D26, D27, D28, D29, D30, D31, D32, D33, D34, D35, D36, D37, D38, D39, D40
part E pins: E1, E2, E3, E4, E5, E6, E7, E8, E9, E10, E11, E12, E13, E14, E15, E16, E17, E18, E19, E20, E21, E22, E23, E24, E25, E26, E27, E28, E29, E30, E31, E32, E33, E34, E35, E36, E37, E38, E39, E40
part F pins: F1, F2, F3, F4, F5, F6, F7, F8, F9, F10, F11, F12, F13, F14, F15, F16, F17, F18, F19, F20, F21, F22, F23, F24, F25, F26, F27, F28, F29, F30, F31, F32, F33, F34, F35, F36, F37, F38, F39, F40
part G pins: G1, G2, G3, G4, G5, G6, G7, G8, G9, G10, G11, G12, G13, G14, G15, G16, G17, G18, G19, G20, G21, G22, G23, G24, G25, G26, G27, G28, G29, G30, G31, G32, G33, G34, G35, G36, G37, G38, G39, G40
part H pins: H1, H2, H3, H4, H5, H6, H7, H8, H9, H10, H11, H12, H13, H14, H15, H16, H17, H18, H19, H20, H21, H22, H23, H24, H25, H26, H27, H28, H29, H30, H31, H32, H33, H34, H35, H36, H37, H38, H39, H40
part I pins: K1, K2, K3, K4, K5, K6, K7, K8, K9, K10, K11, K12, K13, K14, K15, K16, K17, K18, K19, K20, K21, K22, K23, K24, K25, K26, K27, K28, K29, K30, K31, K32, K33, K34, K35, K36, K37, K38, K39, K40
part J pins: J1, J2, J3, J4, J5, J6, J7, J8, J9, J10, J11, J12, J13, J14, J15, J16, J17, J18, J19, J20, J21, J22, J23, J24, J25, J26, J27, J28, J29, J30, J31, J32, J33, J34, J35, J36, J37, J38, J39, J40

## SFPC-SL
designator *
footprint SFPC-SL
pins: A1, A2, A3, A4, A5, A6, A7, A8, A9, A10, A11, A12, A13, A14, A15, A16, A17, A18, A19, A20, S1 SHIELD, S2 SHIELD, S3 SHIELD, S4 SHIELD, S5 SHIELD, S6 SHIELD, S7 SHIELD, S8 SHIELD, S9 SHIELD, S10 SHIELD, S11 SHIELD, S12 SHIELD, S13 SHIELD, S14 SHIELD, S15 SHIELD, S16 SHIELD, S17 SHIELD

## SNO51-40-23
designator X?
Text Field1: 60; Text Field2: 210
pins: 1, 2, 3, 4, 5, 6, 7, 8, 9, 10, 11, 12, 13, 14, 15, 16, 17, 18, 19, 20, 21, 22, 23, 24, 25, 26, 27, 28, 29, 30, 31, 32, 33, 34, 35, 36, 37, 38, 39, 40

## SNO53-8-2
designator X?
Text Field1: 60; Text Field2: 90
pins: 1, 2, 3, 4, 5, 6, 7, 8

## SNO53-60-23
designator X?
Text Field1: 60; Text Field2: 310
pins: 1, 2, 3, 4, 5, 6, 7, 8, 9, 10, 11, 12, 13, 14, 15, 16, 17, 18, 19, 20, 21, 22, 23, 24, 25, 26, 27, 28, 29, 30, 31, 32, 33, 34, 35, 36, 37, 38, 39, 40, 41, 42, 43, 44, 45, 46, 47, 48, 49, 50, 51, 52, 53, 54, 55, 56, 57, 58, 59, 60

## SNO-8
designator X?
Text Field1: 60; Text Field2: 90
pins: 1, 2, 3, 4, 5, 6, 7, 8

## SNO-60
designator X?
Text Field1: 60; Text Field2: 310
pins: 1, 2, 3, 4, 5, 6, 7, 8, 9, 10, 11, 12, 13, 14, 15, 16, 17, 18, 19, 20, 21, 22, 23, 24, 25, 26, 27, 28, 29, 30, 31, 32, 33, 34, 35, 36, 37, 38, 39, 40, 41, 42, 43, 44, 45, 46, 47, 48, 49, 50, 51, 52, 53, 54, 55, 56, 57, 58, 59, 60

## SNP-96
designator X?
Text Field1: 40; Text Field2: 330
part A pins: 1, 2, 3, 4, 5, 6, 7, 8, 9, 10, 11, 12, 13, 14, 15, 16, 17, 18, 19, 20, 21, 22, 23, 24, 25, 26, 27, 28, 29, 30, 31, 32
part B pins: 1, 2, 3, 4, 5, 6, 7, 8, 9, 10, 11, 12, 13, 14, 15, 16, 17, 18, 19, 20, 21, 22, 23, 24, 25, 26, 27, 28, 29, 30, 31, 32
part C pins: 1, 2, 3, 4, 5, 6, 7, 8, 9, 10, 11, 12, 13, 14, 15, 16, 17, 18, 19, 20, 21, 22, 23, 24, 25, 26, 27, 28, 29, 30, 31, 32

## SOT23
designator U?
Text Field1: 20; Text Field2: 40
footprint SOT23
footprint SOT323
pins: 1, 2, 3

## SOT143
designator U?
Text Field1: 20; Text Field2: 40
footprint SOT143
pins: 1, 2, 3, 4

## SOURCE_E
designator E
pins: ?1 +, ?2 -

## SOURCE_I
designator I
pins: ?1 +, ?2 -

## SPEAKER
designator B?
Text Field1: 20; Text Field2: 30
pins: 1, 2

## SR-50
designator X?
Text Field1: 20; Text Field2: 20
pins: 1 SHIELD1 (io), 2 WIRE (io), 3 SHIELD2 (io)

## SW1
designator SW?
Text Field1: 20; Text Field2: 20
pins: COMM, NO

## SW DIP2
designator SW?
Text Field1: 20; Text Field2: 30
pins: 1 IN1, 2 IN2, 3 IN3, 4 IN4

## SW DIP4
designator SW?
Text Field1: 20; Text Field2: 50
pins: 1 SW1.1, 2 SW2.1, 3 SW1.3, 4 SW1.4, 5 SW4.2, 6 SW3.2, 7 SW2.2, 8 SW1.2

## SW DIP8
designator SW?
Text Field1: 20; Text Field2: 90
footprint SWD4-8
pins: 1, 2, 3, 4, 5, 6, 7, 8, 9, 10, 11, 12, 13, 14, 15, 16

## SW SPDT
designator SW?
Text Field1: 20; Text Field2: 40
pins: COMM, NC, NO

## SW SPST
designator SW?
Text Field1: 20; Text Field2: 20
pins: COMM, NO

## SWITCH_3POS_21
designator U?
Text Field1: 60; Text Field2: 50
pins: 1 C1, 2 C2, 3 C3, 4 C4, 5 C5, 6 C6

## TRANSFORMER
designator TR?
Text Field1: 40; Text Field2: 20
footprint B82721K
pins: 1, 2, 3, 4

## TRANSFORMER AIR
designator TR?
Text Field1: 20; Text Field2: 40
pins: IN1, IN2, OUT1, OUT2

## TURN
designator U?
Text Field1: 20; Text Field2: 40
pins: 1 BEG_T, 2 END_T

## USB_2A
designator *
footprint USB_2A
part A pins: 1 WIRE1+ (io), 2 WIRE1- (io), 3 WIRE2+ (io), 4 WIRE2- (io), 9 GND, 10 GND
part B pins: 5 WIRE3+ (io), 6 WIRE3- (io), 7 WIRE4+ (io), 8 WIRE4- (io), 11 GND, 12 GND

## USB_A
designator U?
Text Field1: 60; Text Field2: 70
pins: 1 WIRE1+ (io), 2 WIRE1- (io), 3 WIRE2+ (io), 4 WIRE2- (io), 5 GND, 6 GND

## VARISTOR
designator R?
Text Field1: 20; Text Field2: 20
pins: 1, 2

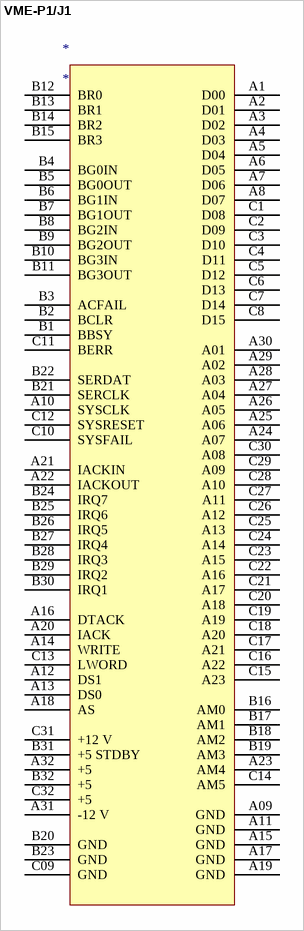
[diagram p5: symbol VME-P1/J1]

## VME-P1/J1
designator *
footprint EURO2.54-2H96 (Connector; DIN 41612, Type C, Thru-Hole; Rows a+b+c, 96 Position; Right Angle)
pins: A1 D00, A2 D01, A3 D02, A4 D03, A5 D04, A6 D05, A7 D06, A8 D07, A09 GND, A10 SYSCLK, A11 GND, A12 DS1, A13 DS0, A14 WRITE, A15 GND, A16 DTACK, A17 GND, A18 AS, A19 GND, A20 IACK, A21 IACKIN, A22 IACKOUT, A23 AM4, A24 A07, A25 A06, A26 A05, A27 A04, A28 A03, A29 A02, A30 A01, A31 -12 V, A32 +5 , B1 BBSY, B2 BCLR, B3 ACFAIL, B4 BG0IN, B5 BG0OUT, B6 BG1IN, B7 BG1OUT, B8 BG2IN, B9 BG2OUT, B10 BG3IN, B11 BG3OUT, B12 BR0, B13 BR1, B14 BR2, B15 BR3, B16 AM0, B17 AM1, B18 AM2, B19 AM3, B20 GND, B21 SERCLK, B22 SERDAT, B23 GND, B24 IRQ7, B25 IRQ6, B26 IRQ5, B27 IRQ4, B28 IRQ3, B29 IRQ2, B30 IRQ1, B31 +5 STDBY, B32 +5 , C1 D08, C2 D09, C3 D10, C4 D11, C5 D12, C6 D13, C7 D14, C8 D15, C09 GND, C10 SYSFAIL, C11 BERR, C12 SYSRESET, C13 LWORD, C14 AM5, C15 A23, C16 A22, C17 A21, C18 A20, C19 A19, C20 A18, C21 A17, C22 A16, C23 A15, C24 A14, C25 A13, C26 A12, C27 A11, C28 A10, C29 A09, C30 A08, C31 +12 V, C32 +5 